# Altium footprint library Buzzer_surfacemount.PcbLib: 1 footprints
Each footprint in its own frame and in the unit in brackets; x right, y up, seen from the top. Pads: shape width x height; smd on the part's side, far side on the other; paste and mask are expansions set on the pad; w line width, h text height; cw(c..) or ccw(c..) is an arc to the next point about the centre after c.
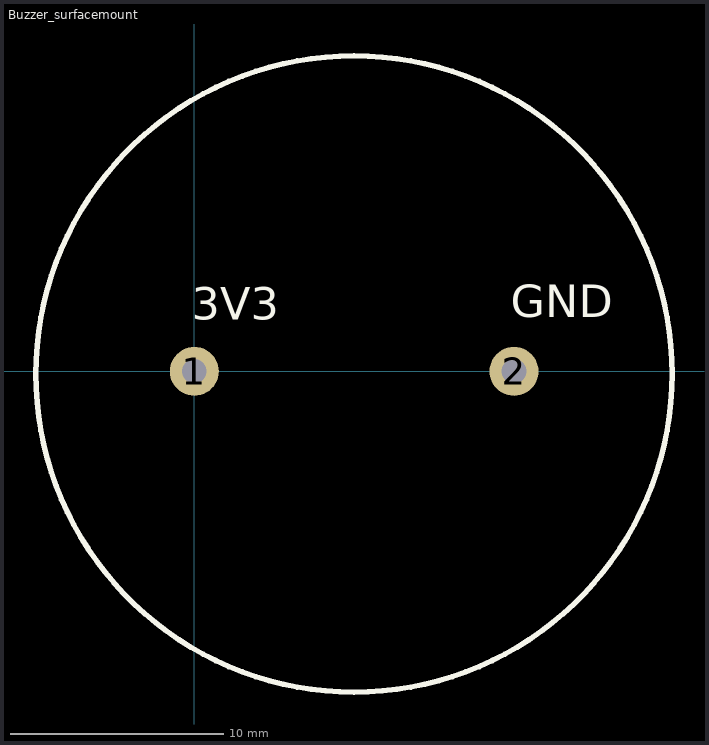
[diagram p0: the footprint, top view; thin cyan lines are the x and y axes]

## Buzzer_surfacemount [mm]
pads (2):
  round 2.3 hole 1.15: 1(0,0) 2(15,0)
Top Overlay:
  circle w0.254: c7.493,-0.127 r14.928
  text "GND" at 14.859,2.54 h1.52
  text "3V3" at -0.127,2.413 h1.52